# EAGLE library part TMC4671 (library Power > Motor\Motion\Ignition Controllers & Drivers)
The TMC4671 is a fully integrated servo controller, providing Field Oriented Control for BLDC/PMSM and 2-phase Stepper Motors as well as DC motors and voice coils. All control functions are implemented in hardware. Integrated ADCs, position sensor interfaces, position interpolators, enable a fully functional servo controller for a wide range of servo applications.
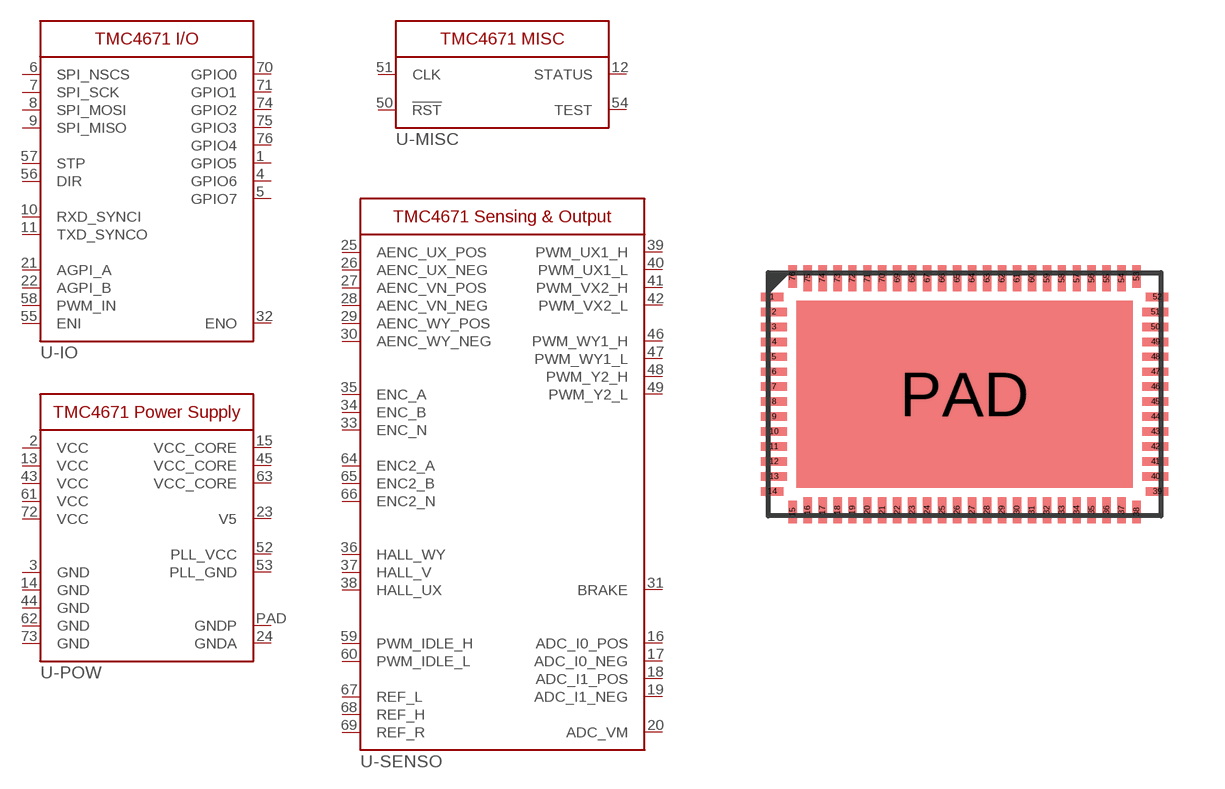
[diagram p0: symbol with the pads of QFN76; footprint QFN76]

Designator prefix U; gates -IO=TMC4671-IO -MISC=TMC4671-MISC -POW=TMC4671-POWER -SENSO=TMC4671-SENSE&OUT

## TMC4671  [QFN76]
1  -IO:GPIO5
2  -POW:VCC
3  -POW:GND
4  -IO:GPIO6
5  -IO:GPIO7
6  -IO:SPI_NSCS
7  -IO:SPI_SCK
8  -IO:SPI_MOSI
9  -IO:SPI_MISO
10  -IO:RXD_SYNCI
11  -IO:TXD_SYNCO
12  -MISC:STATUS
13  -POW:VCC
14  -POW:GND
15  -POW:VCC_CORE
16  -SENSO:ADC_I0_POS
17  -SENSO:ADC_I0_NEG
18  -SENSO:ADC_I1_POS
19  -SENSO:ADC_I1_NEG
20  -SENSO:ADC_VM
21  -IO:AGPI_A
22  -IO:AGPI_B
23  -POW:V5
24  -POW:GNDA
25  -SENSO:AENC_UX_POS
26  -SENSO:AENC_UX_NEG
27  -SENSO:AENC_VN_POS
28  -SENSO:AENC_VN_NEG
29  -SENSO:AENC_WY_POS
30  -SENSO:AENC_WY_NEG
31  -SENSO:BRAKE
32  -IO:ENO
33  -SENSO:ENC_N
34  -SENSO:ENC_B
35  -SENSO:ENC_A
36  -SENSO:HALL_WY
37  -SENSO:HALL_V
38  -SENSO:HALL_UX
39  -SENSO:PWM_UX1_H
40  -SENSO:PWM_UX1_L
41  -SENSO:PWM_VX2_H
42  -SENSO:PWM_VX2_L
43  -POW:VCC
44  -POW:GND
45  -POW:VCC_CORE
46  -SENSO:PWM_WY1_H
47  -SENSO:PWM_WY1_L
48  -SENSO:PWM_Y2_H
49  -SENSO:PWM_Y2_L
50  -MISC:!RST!
51  -MISC:CLK
52  -POW:PLL_VCC
53  -POW:PLL_GND
54  -MISC:TEST
55  -IO:ENI
56  -IO:DIR
57  -IO:STP
58  -IO:PWM_IN
59  -SENSO:PWM_IDLE_H
60  -SENSO:PWM_IDLE_L
61  -POW:VCC
62  -POW:GND
63  -POW:VCC_CORE
64  -SENSO:ENC2_A
65  -SENSO:ENC2_B
66  -SENSO:ENC2_N
67  -SENSO:REF_L
68  -SENSO:REF_H
69  -SENSO:REF_R
70  -IO:GPIO0
71  -IO:GPIO1
72  -POW:VCC
73  -POW:GND
74  -IO:GPIO2
75  -IO:GPIO3
76  -IO:GPIO4
PAD  -POW:GNDP

## Footprint QFN76 (pad centres in mm)
smd 0.6 x 0.225: 1 -5.15,2.6; 14 -5.15,-2.6; 39 5.15,-2.6; 52 5.15,2.6
smd 0.7 x 0.225: 2 -5.1,2.2; 3 -5.1,1.8; 4 -5.1,1.4; 5 -5.1,1; 6 -5.1,0.6; 7 -5.1,0.2; 8 -5.1,-0.2; 9 -5.1,-0.6; 10 -5.1,-1; 11 -5.1,-1.4; 12 -5.1,-1.8; 13 -5.1,-2.2; 40 5.1,-2.2; 41 5.1,-1.8; 42 5.1,-1.4; 43 5.1,-1; 44 5.1,-0.6; 45 5.1,-0.2; 46 5.1,0.2; 47 5.1,0.6; 48 5.1,1; 49 5.1,1.4; 50 5.1,1.8; 51 5.1,2.2
smd 0.225 x 0.6: 15 -4.6,-3.15; 38 4.6,-3.15; 53 4.6,3.15; 76 -4.6,3.15
smd 0.225 x 0.7: 16 -4.2,-3.1; 17 -3.8,-3.1; 18 -3.4,-3.1; 19 -3,-3.1; 20 -2.6,-3.1; 21 -2.2,-3.1; 22 -1.8,-3.1; 23 -1.4,-3.1; 24 -1,-3.1; 25 -0.6,-3.1; 26 -0.2,-3.1; 27 0.2,-3.1; 28 0.6,-3.1; 29 1,-3.1; 30 1.4,-3.1; 31 1.8,-3.1; 32 2.2,-3.1; 33 2.6,-3.1; 34 3,-3.1; 35 3.4,-3.1; 36 3.8,-3.1; 37 4.2,-3.1; 54 4.2,3.1; 55 3.8,3.1; 56 3.4,3.1; 57 3,3.1; 58 2.6,3.1; 59 2.2,3.1; 60 1.8,3.1; 61 1.4,3.1; 62 1,3.1; 63 0.6,3.1; 64 0.2,3.1; 65 -0.2,3.1; 66 -0.6,3.1; 67 -1,3.1; 68 -1.4,3.1; 69 -1.8,3.1; 70 -2.2,3.1; 71 -2.6,3.1; 72 -3,3.1; 73 -3.4,3.1; 74 -3.8,3.1; 75 -4.2,3.1
smd 9 x 5: PAD 0,0